# EAGLE library part TPS63901YCJR (library TPS63901YCJR)
5.5-V buck-boost converter with 75-nA operating IQ in WCSP package Source: Datasheet <https://www.ti.com/lit/ds/symlink/tps63901.pdf?ts=1658737279065&ref_url=https%3A%2F%2Fwww.ti.com%2Fproduct%2FTPS63901%3FkeyMatch%3DTPS63901YCJR%26tisearch%3Dsearch-everything%26usecase%3DOPN>
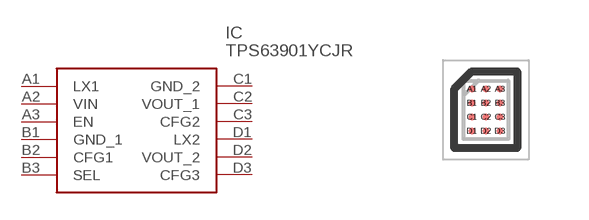
[diagram p0: symbol with the pads of BGA12C35P3X4_111X146X35; footprint BGA12C35P3X4_111X146X35]

Designator prefix IC

## TPS63901YCJR (Description: 5.5-V buck-boost converter with 75-nA operating IQ in WCSP package; Height: 0.35mm; Manufacturer_Name: Texas Instruments; Manufacturer_Part_Number: TPS63901YCJR; Mouser_Part_Number: 595-TPS63901YCJR; Mouser_Price-Stock: https://www.mouser.co.uk/ProductDetail/Texas-Instruments/TPS63901YCJR?qs=vvQtp7zwQdNZy3FE2e2hqg%3D%3D)  [BGA12C35P3X4_111X146X35]
A1  LX1
A2  VIN
A3  EN
B1  GND_1
B2  CFG1
B3  SEL
C1  GND_2
C2  VOUT_1
C3  CFG2
D1  LX2
D2  VOUT_2
D3  CFG3

## Footprint BGA12C35P3X4_111X146X35 (pad centres in mm)
YCJ0012
smd 0.169 x 0.169: A1 -0.35,0.525; A2 0,0.525; A3 0.35,0.525; B1 -0.35,0.175; B2 0,0.175; B3 0.35,0.175; C1 -0.35,-0.175; C2 0,-0.175; C3 0.35,-0.175; D1 -0.35,-0.525; D2 0,-0.525; D3 0.35,-0.525